# Altium footprint library OPTO_HCPL-070A-000E.PcbLib: 1 footprints
Each footprint in its own frame and in the unit in brackets; x right, y up, seen from the top. Pads: shape width x height; smd on the part's side, far side on the other; paste and mask are expansions set on the pad; w line width, h text height; cw(c..) or ccw(c..) is an arc to the next point about the centre after c.
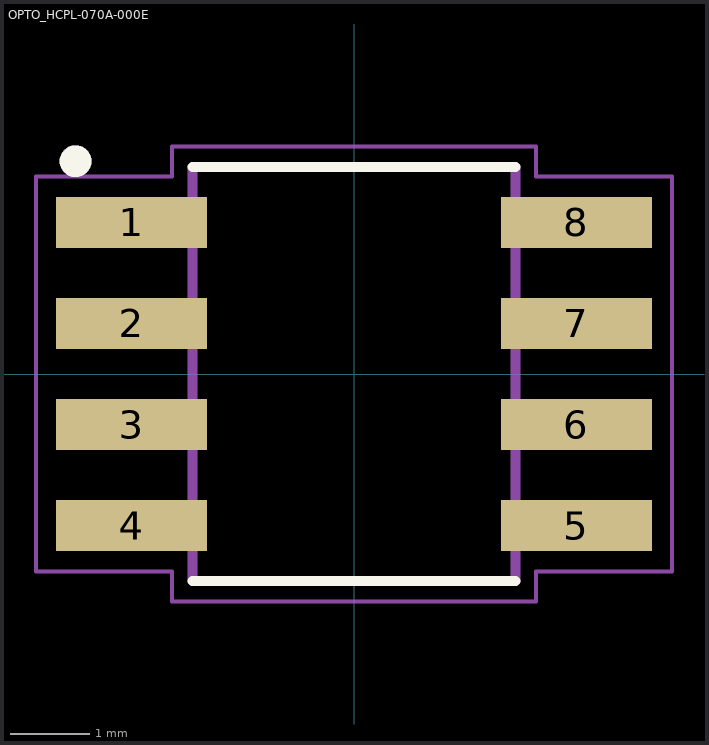
[diagram p0: the footprint, top view; thin cyan lines are the x and y axes]

## OPTO_HCPL-070A-000E [mm]
pads (8):
  rect 1.9x0.64 smd: 1(-2.795,1.905) 2(-2.795,0.635) 3(-2.795,-0.635) 4(-2.795,-1.905) 5(2.795,-1.905) 6(2.795,-0.635) 7(2.795,0.635) 8(2.795,1.905)
Top Overlay:
  circle w0.2: c-3.5,2.675 r0.1
  lines w0.127: -2.03,-2.6 2.03,-2.6 ; -2.03,2.6 2.03,2.6
Mechanical 13:
  circle w0.2: c-3.5,2.675 r0.1
  lines w0.127: -2.03,-2.6 -2.03,2.6 2.03,2.6 2.03,-2.6 -2.03,-2.6
Mechanical 15:
  lines w0.05: -4,-2.48 -4,2.48 -2.29,2.48 -2.29,2.86 2.29,2.86 2.29,2.48 4,2.48 4,-2.48 2.29,-2.48 2.29,-2.86 -2.29,-2.86 -2.29,-2.48 -4,-2.48